# EAGLE library part 96BOARDS-IOT-MEZZANINE_57202-G52-20LF (library GPS-IoT-Mezzanine)
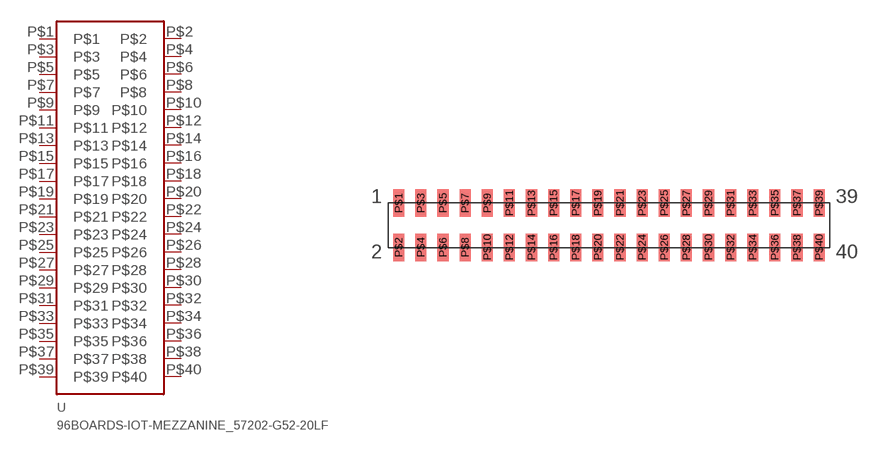
[diagram p0: symbol with the pads of 96BOARDS-IOT-MEZZANINE_57202-G52-20LF; footprint 96BOARDS-IOT-MEZZANINE_57202-G52-20LF]

Designator prefix -

## 96BOARDS-IOT-MEZZANINE_57202-G52-20LF  [96BOARDS-IOT-MEZZANINE_57202-G52-20LF]
P$1  P$1
P$2  P$2
P$3  P$3
P$4  P$4
P$5  P$5
P$6  P$6
P$7  P$7
P$8  P$8
P$9  P$9
P$10  P$10
P$11  P$11
P$12  P$12
P$13  P$13
P$14  P$14
P$15  P$15
P$16  P$16
P$17  P$17
P$18  P$18
P$19  P$19
P$20  P$20
P$21  P$21
P$22  P$22
P$23  P$23
P$24  P$24
P$25  P$25
P$26  P$26
P$27  P$27
P$28  P$28
P$29  P$29
P$30  P$30
P$31  P$31
P$32  P$32
P$33  P$33
P$34  P$34
P$35  P$35
P$36  P$36
P$37  P$37
P$38  P$38
P$39  P$39
P$40  P$40

## Footprint 96BOARDS-IOT-MEZZANINE_57202-G52-20LF (pad centres in mm)
smd 1 x 2.5: P$1 -19,2; P$2 -19,-2; P$3 -17,2; P$4 -17,-2; P$5 -15,2; P$6 -15,-2; P$7 -13,2; P$8 -13,-2; P$9 -11,2; P$10 -11,-2; P$11 -9,2; P$12 -9,-2; P$13 -7,2; P$14 -7,-2; P$15 -5,2; P$16 -5,-2; P$17 -3,2; P$18 -3,-2; P$19 -1,2; P$20 -1,-2; P$21 1,2; P$22 1,-2; P$23 3,2; P$24 3,-2; P$25 5,2; P$26 5,-2; P$27 7,2; P$28 7,-2; P$29 9,2; P$30 9,-2; P$31 11,2; P$32 11,-2; P$33 13,2; P$34 13,-2; P$35 15,2; P$36 15,-2; P$37 17,2; P$38 17,-2; P$39 19,2; P$40 19,-2